# EAGLE library part AOZ1282CI (library Alpha Omega)
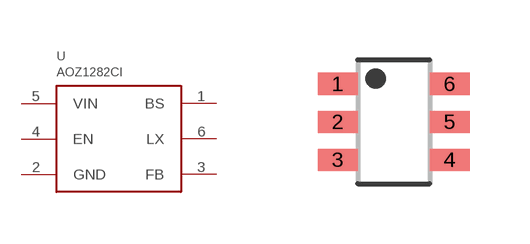
[diagram p0: symbol with the pads of SOT23-6; footprint SOT23-6]

Designator prefix U

## AOZ1282CI  [SOT23-6]
1  BS
2  GND
3  FB
4  EN
5  VIN
6  LX

## Footprint SOT23-6 (pad centres in mm)
smd 1 x 0.55: 1 -1.4,0.95; 2 -1.4,0; 3 -1.4,-0.95; 4 1.4,-0.95; 5 1.4,0; 6 1.4,0.95